# Altium footprint library OLED_LCD.PcbLib: 22 footprints (part 1 of 2)
Each footprint in its own frame and in the unit in brackets; x right, y up, seen from the top. Pads: shape width x height; smd on the part's side, far side on the other; paste and mask are expansions set on the pad; w line width, h text height; cw(c..) or ccw(c..) is an arc to the next point about the centre after c.
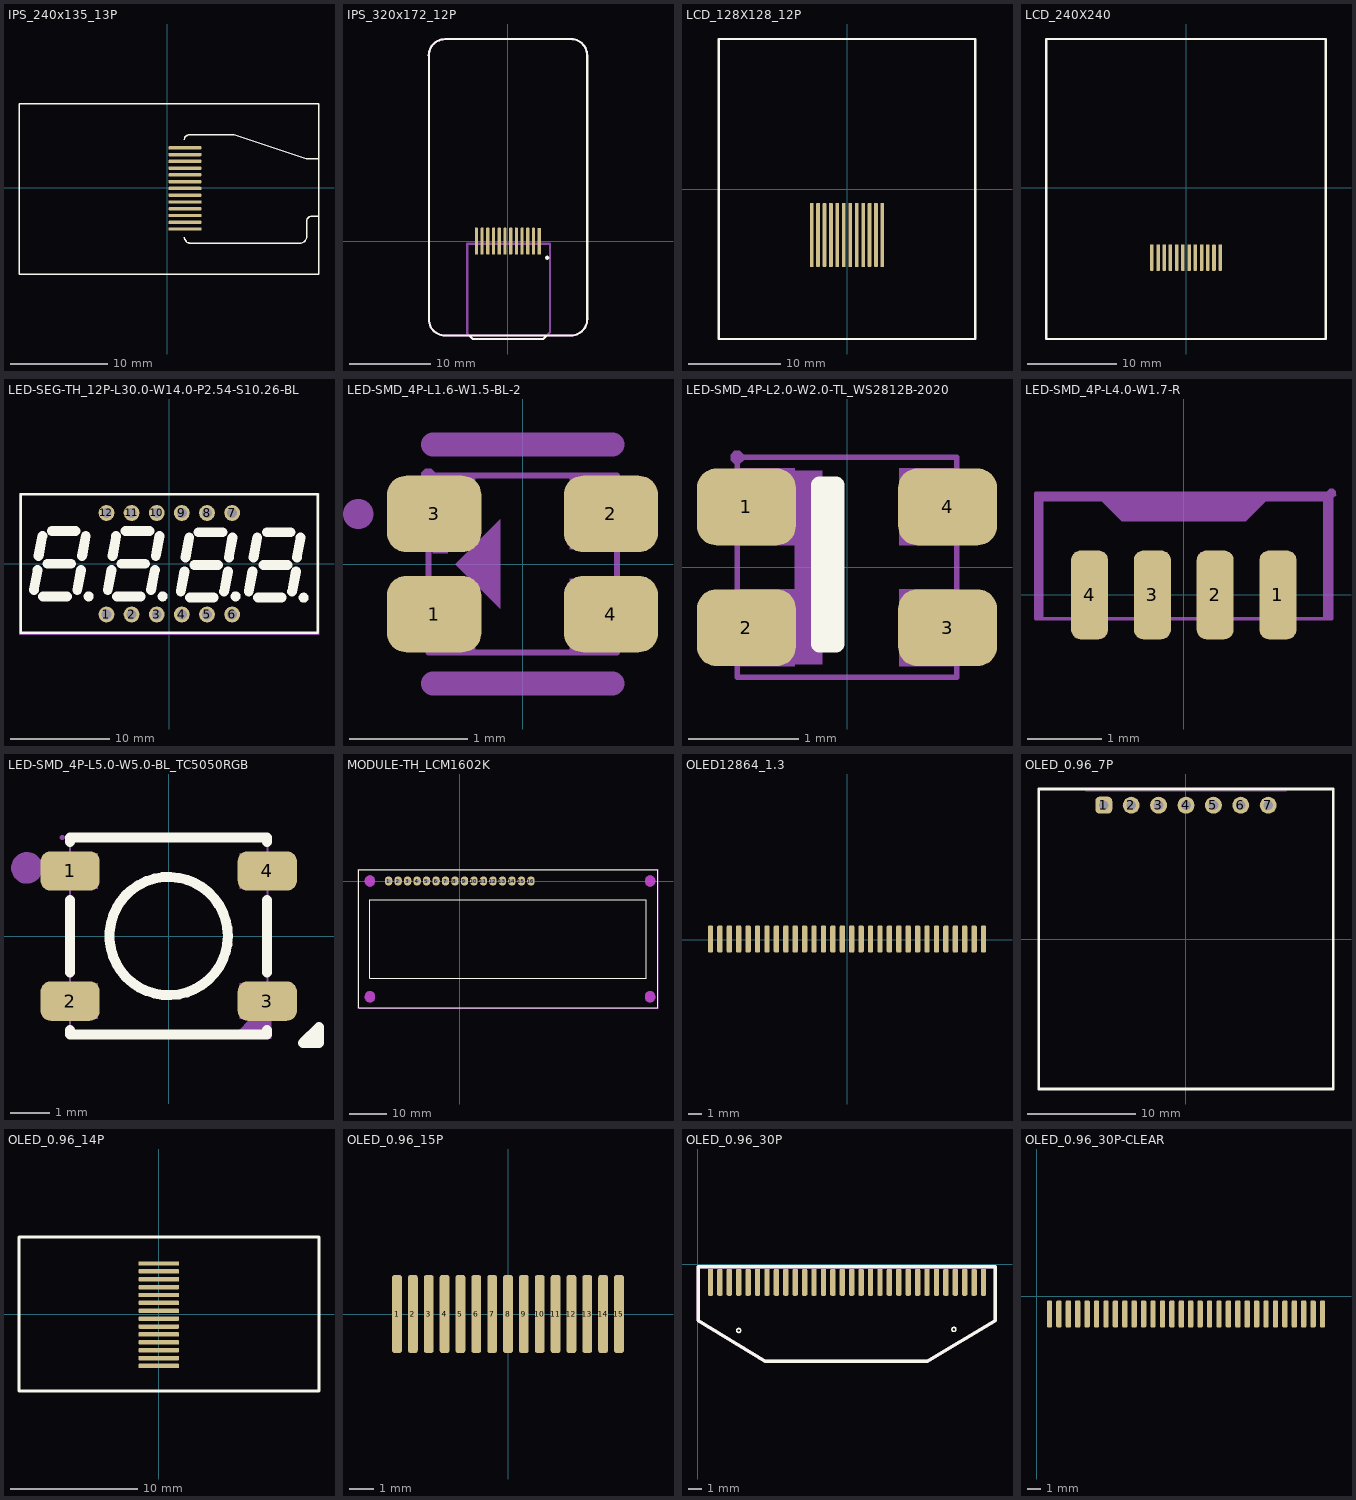
[diagram p0: the footprints below, top view; thin cyan lines are the x and y axes]

## IPS_240x135_13P [mm] "中景园"
pads (13):
  rrect50% 3.4x0.35 smd mask+0.102: 1(1.828,4.132) 2(1.828,3.432) 3(1.828,2.732) 4(1.828,2.032) 5(1.828,1.332) 6(1.828,0.632) 7(1.828,-0.068) 8(1.828,-0.768) 9(1.828,-1.468) 10(1.828,-2.168) 11(1.828,-2.868) 12(1.828,-3.568) 13(1.828,-4.268)
Top Overlay:
  lines w0.152: 1.773,-5.107 ccw(c2.393,-5.107) 2.393,-5.727 13.758,-5.727 ccw(c13.758,-5.074) 14.411,-5.074 14.411,-3.441 cw(c14.89,-3.441) 14.89,-2.962 15.659,-2.962 ; 1.773,4.94 cw(c2.338,4.94) 2.338,5.504 6.91,5.505 14.389,3.021 15.687,2.993 ; -15.322,-8.928 -15.322,8.672 15.678,8.672 15.678,-8.928 -15.322,-8.928
3D body "IPS1.step": height 1.64, standoff 0.06, extent -15.367,-8.96 16.351,8.706

## IPS_320x172_12P [mm] "中景园1.47寸圆角IPS"
pads (12):
  rrect50% 0.4x3.302 smd mask+0.102: 1(3.857,-0.012) 2(3.15,0) 3(2.45,0) 4(1.75,0) 5(1.05,0) 6(0.35,0) 7(-0.35,0) 8(-1.05,0) 9(-1.75,0) 10(-2.45,0) 11(-3.15,0) 12(-3.85,0)
Top Overlay:
  circle w0.254: c4.826,-2.032 r0.127
  lines w0.254: -9.685,22.74 cw(c-7.685,22.74) -7.685,24.74 7.713,24.74 ; -9.68,22.735 -9.68,-9.566 ccw(c-7.68,-9.566) -7.68,-11.566 ; -7.671,-11.557 7.738,-11.557 ; -4.727,-11.557 -4.295,-11.989 0.029,-11.989 ; 0.023,-11.989 4.347,-11.989 4.779,-11.557 ; 7.726,24.752 cw(c7.726,22.752) 9.726,22.752 9.726,-9.545 ; 7.732,-11.55 ccw(c7.732,-9.55) 9.732,-9.55
Mechanical 6:
  lines w0.254: -4.67,-11.621 -4.975,-11.316 -4.975,-0.318 5.16,-0.318 5.16,-11.176 4.741,-11.595 ; 7.725,24.74 7.967,24.74 ; 7.732,-11.55 ccw(c7.732,-9.55) 9.732,-9.55 ; 7.738,-11.557 -7.671,-11.557 ccw(c-7.671,-11.566) -7.681,-11.566 cw(c-7.681,-9.566) -9.681,-9.566 -9.681,22.735 ccw(c-9.686,22.735) -9.686,22.74 cw(c-7.686,22.74) -7.686,24.74 7.713,24.74 ccw(c7.713,24.752) 7.725,24.752 cw(c7.725,22.752) 9.725,22.752 9.725,-9.545
3D body "1.47tfrealt.step": height 1.88, standoff 0.11, extent -9.652,-12.518 9.738,24.765

## LCD_128X128_12P [mm] "LCD_240X240-FLUSH-154"
height 0.8
pads (12):
  rrect50% 0.4x7 smd: 1(3.851,-5) 2(3.151,-5) 3(2.451,-5) 4(1.751,-5) 5(1.051,-5) 6(0.351,-5) 7(-0.349,-5) 8(-1.049,-5) 9(-1.749,-5) 10(-2.449,-5) 11(-3.149,-5) 12(-3.849,-5)
Top Overlay:
  lines w0.254: -13.95,-16.32 -13.95,16.32 13.95,16.32 13.95,-16.32 -13.95,-16.32

## LCD_240X240 [mm] "LCD_240X240-FLUSH-154"
height 0.8
pads (12):
  rrect50% 0.4x3 smd: 1(3.851,-7.85) 2(3.151,-7.85) 3(2.451,-7.85) 4(1.751,-7.85) 5(1.051,-7.85) 6(0.351,-7.85) 7(-0.349,-7.85) 8(-1.049,-7.85) 9(-1.749,-7.85) 10(-2.449,-7.85) 11(-3.149,-7.85) 12(-3.849,-7.85)
Top Overlay:
  lines w0.254: -15.748,-17.018 -15.748,16.764 15.748,16.764 15.748,-17.018 -15.748,-17.018
3D body "1.54 TFT IPS - 12P - Flat Flush Mount.stp": height -0.37, standoff -1.9, extent -15.697,-17.018 15.697,16.764

## LED-SEG-TH_12P-L30.0-W14.0-P2.54-S10.26-BL [mm]
pads (12):
  round 1.6 hole 1: 1(-6.35,-5.13) 2(-3.81,-5.13) 3(-1.27,-5.13) 4(1.27,-5.13) 5(3.81,-5.13) 6(6.35,-5.13) 7(6.35,5.13) 8(3.81,5.13) 9(1.27,5.13) 10(-1.27,5.13) 11(-3.81,5.13) 12(-6.35,5.13)
Top Overlay:
  circle w0.5: c6.699,-3.302 r0.254
  circle w0.5: c-0.667,-3.302 r0.254
  circle w0.5: c-8.144,-3.302 r0.254
  circle w0.5: c13.573,-3.429 r0.254
  lines w0.254: -15,-7 15,-7 15,7 -15,7 -15,-7
  lines w1: -13.684,-2.667 -13.303,-0.635 ; -13.208,0.762 -12.827,2.794 ; -12.763,-3.302 -10.351,-3.302 ; -12.319,0 -9.906,0 ; -11.874,3.302 -9.461,3.302 ; -9.303,-2.667 -8.922,-0.635 ; -8.826,0.762 -8.445,2.794 ; -6.223,-2.667 -5.842,-0.635 ; -5.747,0.762 -5.366,2.794 ; -5.302,-3.302 -2.889,-3.302 ; -4.858,0 -2.445,0 ; -4.413,3.302 -2,3.302 ; -1.841,-2.667 -1.46,-0.635 ; -1.365,0.762 -0.984,2.794 ; 1.159,-2.794 1.54,-0.762 ; 1.635,0.635 2.016,2.667 ; 2.08,-3.429 4.493,-3.429 ; 2.524,-0.127 4.937,-0.127 ; 2.969,3.175 5.382,3.175 ; 5.54,-2.794 5.921,-0.762 ; 6.017,0.635 6.398,2.667 ; 8.033,-2.794 8.414,-0.762 ; 8.509,0.635 8.89,2.667 ; 8.954,-3.429 11.367,-3.429 ; 9.525,-0.127 11.938,-0.127 ; 9.842,3.175 12.255,3.175 ; 12.414,-2.794 12.795,-0.762 ; 12.89,0.635 13.271,2.667
Mechanical 15:
  drawing of 17 lines, arcs and shapes, not listed

## LED-SMD_4P-L1.6-W1.5-BL-2 [mm] "RGB1615"
pads (4):
  rrect50% 0.8x0.65 smd mask+0.05: 1(-0.75,-0.425) 2(0.75,0.425) 3(-0.75,0.425) 4(0.75,-0.425)
Mechanical 6:
  region: -1.016,0.472 -1.016,0.345 -0.762,0.345 -0.762,0.091 -0.635,0.091 -0.635,0.345 -0.381,0.345 -0.381,0.472 -0.635,0.472 -0.635,0.726 -0.762,0.726 -0.762,0.472
  region: -0.572,0 -0.191,0.381 -0.191,-0.381
  region: -1.016,-0.381 -0.381,-0.381 -0.381,-0.508 -1.016,-0.508
  region: 0.439,0.479 1.074,0.479 1.074,0.352 0.439,0.352
  region: 0.439,-0.371 1.074,-0.371 1.074,-0.498 0.439,-0.498
  lines w0.203: -0.762,-1.016 0.762,-1.016 ; -0.762,1.016 0.762,1.016
  lines w0.254: -1.397,0.425 -1.394,0.425
Mechanical 15:
  region: -0.74,0.75 -0.74,0.775 -0.775,0.81 -0.825,0.81 -0.86,0.775 -0.86,0.75 -0.86,0.725 -0.825,0.69 -0.775,0.69 -0.74,0.725 -0.74,0.75
  region: 0.4,-0.725 0.4,-0.125 0.8,-0.125 0.8,-0.725
  region: 0.4,0.125 0.4,0.725 0.8,0.725 0.8,0.125
  region: -0.8,0.125 -0.8,0.725 -0.4,0.725 -0.4,0.125
  region: -0.8,-0.725 -0.8,-0.125 -0.4,-0.125 -0.4,-0.725
  lines w0.051: -0.8,-0.75 -0.8,0.75 0.8,0.75 0.8,-0.75 -0.8,-0.75
3D body "RGB1615.step": height 0.56, standoff 0, extent -0.8,-0.755 0.82,0.755

## LED-SMD_4P-L2.0-W2.0-TL_WS2812B-2020 [mm]
pads (4):
  rrect50% 0.9x0.7 smd mask+0.051: 1(-0.915,0.55) 2(-0.915,-0.55) 3(0.915,-0.55) 4(0.915,0.55)
Top Overlay:
  lines w0.152: -0.25,-0.7 -0.25,0.75 -0.1,0.75 -0.1,-0.65 -0.1,-0.7 -0.25,-0.7
Mechanical 6:
  region: 0.925,-0.75 0.925,-0.7 0.975,-0.7 0.975,-0.4 0.925,-0.4 0.925,-0.35 1.075,-0.35 1.075,-0.4 1.025,-0.4 1.025,-0.7 1.075,-0.7 1.075,-0.75 0.925,-0.75
  region: 0.55,-0.35 0.55,-0.75 0.7,-0.75 0.75,-0.75 0.8,-0.7 0.8,-0.4 0.75,-0.35 0.65,-0.35 0.65,-0.4 0.75,-0.4 0.75,-0.7 0.6,-0.7 0.6,-0.35
  region: -1.175,0.7 -1.175,0.3 -1.025,0.3 -0.975,0.3 -0.925,0.35 -0.925,0.65 -0.975,0.7 -1.075,0.7 -1.075,0.65 -0.975,0.65 -0.975,0.35 -1.125,0.35 -1.125,0.7
  region: -0.8,0.7 -0.85,0.65 -0.85,0.35 -0.8,0.3 -0.6,0.3 -0.55,0.35 -0.55,0.65 -0.6,0.7 -0.7,0.7 -0.7,0.65 -0.6,0.65 -0.6,0.35 -0.8,0.35 -0.8,0.65 -0.75,0.65 -0.75,0.7
  region: 0.95,0.75 0.95,0.45 1.1,0.45 1.1,0.35 1.15,0.35 1.15,0.45 1.25,0.45 1.25,0.5 1.15,0.5 1.15,0.65 1.1,0.65 1.1,0.5 1,0.5 1,0.75
  region: -0.225,0.88 -0.225,-0.88 -0.475,-0.88 -0.475,0.88
  region: 0.56,0.6 0.8,0.6 0.8,0.55 0.56,0.55
  region: 0.655,0.455 0.655,0.695 0.705,0.695 0.705,0.455
  region: -1.18,-0.665 -0.94,-0.665 -0.94,-0.715 -1.18,-0.715
  region: -0.82,-0.38 -0.58,-0.38 -0.58,-0.56 -0.79,-0.56 -0.79,-0.67 -0.58,-0.67 -0.58,-0.72 -0.82,-0.72 -0.83,-0.72 -0.83,-0.71 -0.83,-0.52 -0.61,-0.52 -0.61,-0.42 -0.83,-0.42 -0.83,-0.38
Mechanical 15:
  region: -1,0.2 -1,0.9 -0.475,0.9 -0.475,0.2
  region: -1,-0.9 -1,-0.2 -0.475,-0.2 -0.475,-0.9
  region: 0.475,-0.9 0.475,-0.2 1,-0.2 1,-0.9
  region: 0.475,0.2 0.475,0.9 1,0.9 1,0.2
  region: -0.94,1 -0.94,1.025 -0.975,1.06 -1.025,1.06 -1.06,1.025 -1.06,1 -1.06,0.975 -1.025,0.94 -0.975,0.94 -0.94,0.975 -0.94,1
  lines w0.051: -1,-1 -1,1 1,1 1,-1 -1,-1
3D body "LED_WS2812_2020.step": height 0.84, standoff 0, extent -1.101,-1 1.101,1

## LED-SMD_4P-L4.0-W1.7-R [mm]
pads (4):
  rrect50% 0.5x1.2 smd: 1(1.275,0) 2(0.425,0) 3(-0.425,0) 4(-1.275,0)
Mechanical 6:
  circle w0.2: c1.28,-0.35 r0.1
  region: -2,-0.323 -2,1.377 2,1.377 2,-0.323 1.89,-0.323 1.89,1.267 1.107,1.267 0.838,0.998 -0.841,0.998 -0.843,0.998 -1.111,1.266 -1.899,1.266 -1.9,1.267 -1.9,-0.323
Mechanical 15:
  region: 1.075,0.577 1.475,0.577 1.475,-0.323 1.075,-0.323
  region: 0.225,0.577 0.625,0.577 0.625,-0.323 0.225,-0.323
  region: -0.625,0.577 -0.225,0.577 -0.225,-0.323 -0.625,-0.323
  region: -1.475,0.577 -1.075,0.577 -1.075,-0.323 -1.475,-0.323
  region: 2.06,1.377 2.06,1.402 2.025,1.437 1.975,1.437 1.94,1.402 1.94,1.377 1.94,1.352 1.975,1.317 2.025,1.317 2.06,1.352 2.06,1.377
  lines w0.051: -2,-0.323 2,-0.323 2,1.377 -2,1.377 -2,-0.323

## LED-SMD_4P-L5.0-W5.0-BL_TC5050RGB [mm]
pads (4):
  rrect50% 1.5x1 smd: 1(-2.5,1.65) 2(-2.5,-1.65) 3(2.5,-1.65) 4(2.5,1.65)
Top Overlay:
  circle w0.254: c-0.001,0 r1.5
  lines w0.254: -2.501,-2.38 -2.501,-2.5 2.499,-2.5 2.499,-2.38 ; -2.501,-0.92 -2.501,0.92 ; -2.501,2.38 -2.501,2.5 2.499,2.5 2.499,2.38 ; 2.499,-0.92 2.499,0.92 ; 3.412,-2.708 3.812,-2.708 3.812,-2.308 3.412,-2.708
Mechanical 6:
  circle w0.4: c-3.597,1.73 r0.2
  region: 2.6,-1.5 2.6,-2.6 1.6,-2.6
Mechanical 15:
  region: -2.64,2.5 -2.641,2.524 -2.676,2.559 -2.725,2.559 -2.76,2.525 -2.76,2.5 -2.76,2.476 -2.725,2.441 -2.676,2.441 -2.641,2.476 -2.64,2.5
  region: 2.7,1.2 1.8,1.2 1.8,2.1 2.7,2.1
  region: 2.7,-2.1 1.8,-2.1 1.8,-1.2 2.7,-1.2
  region: -1.8,-2.1 -2.7,-2.1 -2.7,-1.2 -1.8,-1.2
  region: -1.8,1.2 -2.7,1.2 -2.7,2.1 -1.8,2.1
  lines w0.051: -2.5,-2.5 2.5,-2.5 2.5,2.5 -2.5,2.5 -2.5,-2.5

## MODULE-TH_LCM1602K [mm]
pads (16):
  oval 2x2.5 hole 1.2: 1(-19.05,0) 2(-16.51,0) 3(-13.97,0) 4(-11.43,0) 5(-8.89,0) 6(-6.35,0) 7(-3.81,0) 8(-1.27,0) 9(1.27,0) 10(3.81,0) 11(6.35,0) 12(8.89,0) 13(11.43,0) 14(13.97,0) 15(16.51,0) 16(19.05,0)
Top Overlay:
  lines w0.254: -27.05,3 52.95,3 ; -27.052,-33.998 52.95,-33.998 52.95,3.003 -27.052,3.003 -27.052,-33.998 ; -24.05,-26 -24.05,-5 49.95,-5 49.95,-26 -24.05,-26
Keep-Out Layer:
  board cut-out: -22.701,-31.001 -22.701,-30.823 -22.793,-30.48 -22.971,-30.172 -23.222,-29.92 -23.53,-29.743 -23.874,-29.651 -24.229,-29.651 -24.572,-29.743 -24.88,-29.92 -25.132,-30.172 -25.309,-30.48 -25.401,-30.823 -25.401,-31.001 -25.401,-31.178 -25.309,-31.522 -25.132,-31.83 -24.88,-32.081 -24.572,-32.259 -24.229,-32.351 -23.874,-32.351 -23.53,-32.259 -23.222,-32.081 -22.971,-31.83 -22.793,-31.522 -22.701,-31.178 -22.701,-31.001
  board cut-out: 52.3,-31.001 52.3,-30.823 52.208,-30.48 52.03,-30.172 51.779,-29.92 51.471,-29.743 51.128,-29.651 50.772,-29.651 50.429,-29.743 50.121,-29.92 49.87,-30.172 49.692,-30.48 49.6,-30.823 49.6,-31.001 49.6,-31.178 49.692,-31.522 49.87,-31.83 50.121,-32.081 50.429,-32.259 50.772,-32.351 51.128,-32.351 51.471,-32.259 51.779,-32.081 52.03,-31.83 52.208,-31.522 52.3,-31.178 52.3,-31.001
  board cut-out: 52.3,0 52.3,0.178 52.208,0.521 52.03,0.829 51.779,1.08 51.471,1.258 51.128,1.35 50.772,1.35 50.429,1.258 50.121,1.08 49.87,0.829 49.692,0.521 49.6,0.178 49.6,0 49.6,-0.178 49.692,-0.521 49.87,-0.829 50.121,-1.08 50.429,-1.258 50.772,-1.35 51.128,-1.35 51.471,-1.258 51.779,-1.08 52.03,-0.829 52.208,-0.521 52.3,-0.178 52.3,0
  board cut-out: -22.701,0 -22.701,0.178 -22.793,0.521 -22.971,0.829 -23.222,1.08 -23.53,1.258 -23.874,1.35 -24.229,1.35 -24.572,1.258 -24.88,1.08 -25.132,0.829 -25.309,0.521 -25.401,0.178 -25.401,0 -25.401,-0.178 -25.309,-0.521 -25.132,-0.829 -24.88,-1.08 -24.572,-1.258 -24.229,-1.35 -23.874,-1.35 -23.53,-1.258 -23.222,-1.08 -22.971,-0.829 -22.793,-0.521 -22.701,-0.178 -22.701,0
Mechanical 1:
  circle w0.025: c-24.051,-31.001 r1.35
  circle w0.025: c50.95,-31.001 r1.35
  circle w0.025: c50.95,0 r1.35
  circle w0.025: c-24.051,0 r1.35
Mechanical 15:
  drawing of 25 lines, arcs and shapes, not listed
Multi-Layer keep-out:
  circle w0.254: c-24.051,-31.001 r1.35
  circle w0.254: c50.95,-31.001 r1.35
  circle w0.254: c50.95,0 r1.35
  circle w0.254: c-24.051,0 r1.35

## OLED12864_1.3 [mm]
pads (30):
  rrect50% 0.4x2 smd mask+0.051: 1(-10.16,0.062) 2(-9.46,0.062) 3(-8.76,0.062) 4(-8.06,0.062) 5(-7.36,0.062) 6(-6.66,0.062) 7(-5.96,0.062) 8(-5.26,0.062) 9(-4.56,0.062) 10(-3.86,0.062) 11(-3.16,0.062) 12(-2.46,0.062) 13(-1.76,0.062) 14(-1.06,0.062) 15(-0.36,0.062) 16(0.34,0.062) 17(1.04,0.062) 18(1.74,0.062) 19(2.44,0.062) 20(3.14,0.062) 21(3.84,0.062) 22(4.54,0.062) 23(5.24,0.062) 24(5.94,0.062) 25(6.64,0.062) 26(7.34,0.062) 27(8.04,0.062) 28(8.74,0.062) 29(9.44,0.062) 30(10.14,0.062)

## OLED_0.96_7P [mm]
pads (7):
  rrect50% 1.575x1.575 hole 0.9 mask+0.051: 1(-7.62,12.4)
  round 1.575 hole 0.9 mask+0.051: 2(-5.08,12.4) 3(-2.54,12.4) 4(0,12.4) 5(2.54,12.4) 6(5.08,12.4) 7(7.62,12.4)
Top Overlay:
  lines w0.25: 7,-13.9 13.65,-13.9 13.65,13.9 -13.65,13.9 -13.65,-13.9 7.112,-13.9
Mechanical 15:
  region: -7.12,12.4 -7.12,12.5 -7.196,12.683 -7.337,12.824 -7.52,12.9 -7.719,12.9 -7.903,12.824 -8.044,12.683 -8.12,12.5 -8.12,12.4 -8.12,12.301 -8.044,12.117 -7.903,11.976 -7.719,11.9 -7.52,11.9 -7.337,11.976 -7.196,12.117 -7.12,12.301 -7.12,12.4
  region: -4.58,12.4 -4.58,12.5 -4.656,12.683 -4.797,12.824 -4.98,12.9 -5.179,12.9 -5.363,12.824 -5.504,12.683 -5.58,12.5 -5.58,12.4 -5.58,12.301 -5.504,12.117 -5.363,11.976 -5.179,11.9 -4.98,11.9 -4.797,11.976 -4.656,12.117 -4.58,12.301 -4.58,12.4
  region: -2.04,12.4 -2.04,12.5 -2.116,12.683 -2.257,12.824 -2.44,12.9 -2.639,12.9 -2.823,12.824 -2.964,12.683 -3.04,12.5 -3.04,12.4 -3.04,12.301 -2.964,12.117 -2.823,11.976 -2.639,11.9 -2.44,11.9 -2.257,11.976 -2.116,12.117 -2.04,12.301 -2.04,12.4
  region: 0.5,12.4 0.5,12.5 0.424,12.683 0.283,12.824 0.1,12.9 -0.099,12.9 -0.283,12.824 -0.424,12.683 -0.5,12.5 -0.5,12.4 -0.5,12.301 -0.424,12.117 -0.283,11.976 -0.099,11.9 0.1,11.9 0.283,11.976 0.424,12.117 0.5,12.301 0.5,12.4
  region: 3.04,12.4 3.04,12.5 2.964,12.683 2.823,12.824 2.64,12.9 2.441,12.9 2.257,12.824 2.116,12.683 2.04,12.5 2.04,12.4 2.04,12.301 2.116,12.117 2.257,11.976 2.441,11.9 2.64,11.9 2.823,11.976 2.964,12.117 3.04,12.301 3.04,12.4
  region: 5.58,12.4 5.58,12.5 5.504,12.683 5.363,12.824 5.18,12.9 4.981,12.9 4.797,12.824 4.656,12.683 4.58,12.5 4.58,12.4 4.58,12.301 4.656,12.117 4.797,11.976 4.981,11.9 5.18,11.9 5.363,11.976 5.504,12.117 5.58,12.301 5.58,12.4
  region: 8.12,12.4 8.12,12.5 8.044,12.683 7.903,12.824 7.72,12.9 7.521,12.9 7.337,12.824 7.196,12.683 7.12,12.5 7.12,12.4 7.12,12.301 7.196,12.117 7.337,11.976 7.521,11.9 7.72,11.9 7.903,11.976 8.044,12.117 8.12,12.301 8.12,12.4
  lines w0.051: -9.267,13.747 9.271,13.747

## OLED_0.96_14P [mm]
pads (14):
  rrect50% 3.2x0.35 smd mask+0.051: 1(0,3.974) 2(0,3.354) 3(0,2.734) 4(0,2.114) 5(0,1.494) 6(0,0.874) 7(0,0.254) 8(0,-0.366) 9(0,-0.986) 10(0,-1.606) 11(0,-2.226) 12(0,-2.846) 13(0,-3.466) 14(0,-4.086)
Top Overlay:
  lines w0.254: -11,-6.065 12.6,-6.065 12.6,6.065 -11,6.065 -11,-6.065

## OLED_0.96_15P [mm]
pads (15):
  rrect50% 0.4x3.2 smd mask+0.051: 1(-4.55,0) 2(-3.9,0) 3(-3.25,0) 4(-2.6,0) 5(-1.95,0) 6(-1.3,0) 7(-0.65,0) 8(0,0) 9(0.65,0) 10(1.3,0) 11(1.95,0) 12(2.6,0) 13(3.25,0) 14(3.9,0) 15(4.55,0)

## OLED_0.96_30P [mm]
pads (30):
  rrect50% 0.4x2 smd mask+0.051: 1(21.258,-1.327) 2(20.558,-1.327) 3(19.858,-1.327) 4(19.158,-1.327) 5(18.458,-1.327) 6(17.758,-1.327) 7(17.058,-1.327) 8(16.358,-1.327) 9(15.658,-1.327) 10(14.958,-1.327) 11(14.258,-1.327) 12(13.558,-1.327) 13(12.858,-1.327) 14(12.158,-1.327) 15(11.458,-1.327) 16(10.758,-1.327) 17(10.058,-1.327) 18(9.358,-1.327) 19(8.658,-1.327) 20(7.958,-1.327) 21(7.258,-1.327) 22(6.558,-1.327) 23(5.858,-1.327) 24(5.158,-1.327) 25(4.458,-1.327) 26(3.758,-1.327) 27(3.058,-1.327) 28(2.358,-1.327) 29(1.658,-1.327) 30(0.958,-1.327)
Top Overlay:
  circle w0.1: c3.058,-4.909 r0.15
  circle w0.1: c19.058,-4.827 r0.15
  lines w0.254: 0.04,-0.159 0.04,-4.159 5.058,-7.207 17.058,-7.207 22.138,-4.159 22.138,-0.159 0.138,-0.159
Mechanical 1:
  lines w0.254: 0.04,-4.159 0.04,-0.159 22.138,-0.159 22.138,-4.159 17.058,-7.207 5.058,-7.207 0.04,-4.159

## OLED_0.96_30P-CLEAR [mm]
pads (30):
  rrect50% 0.4x2 smd mask+0.051: 1(21.258,-1.327) 2(20.558,-1.327) 3(19.858,-1.327) 4(19.158,-1.327) 5(18.458,-1.327) 6(17.758,-1.327) 7(17.058,-1.327) 8(16.358,-1.327) 9(15.658,-1.327) 10(14.958,-1.327) 11(14.258,-1.327) 12(13.558,-1.327) 13(12.858,-1.327) 14(12.158,-1.327) 15(11.458,-1.327) 16(10.758,-1.327) 17(10.058,-1.327) 18(9.358,-1.327) 19(8.658,-1.327) 20(7.958,-1.327) 21(7.258,-1.327) 22(6.558,-1.327) 23(5.858,-1.327) 24(5.158,-1.327) 25(4.458,-1.327) 26(3.758,-1.327) 27(3.058,-1.327) 28(2.358,-1.327) 29(1.658,-1.327) 30(0.958,-1.327)
Top Overlay:
  text "." at 21.971,-0.254 h0.9